# Altium footprint library PcbLib1.PcbLib: 15 footprints
Each footprint in its own frame and in the unit in brackets; x right, y up, seen from the top. Pads: shape width x height; smd on the part's side, far side on the other; paste and mask are expansions set on the pad; w line width, h text height; cw(c..) or ccw(c..) is an arc to the next point about the centre after c.
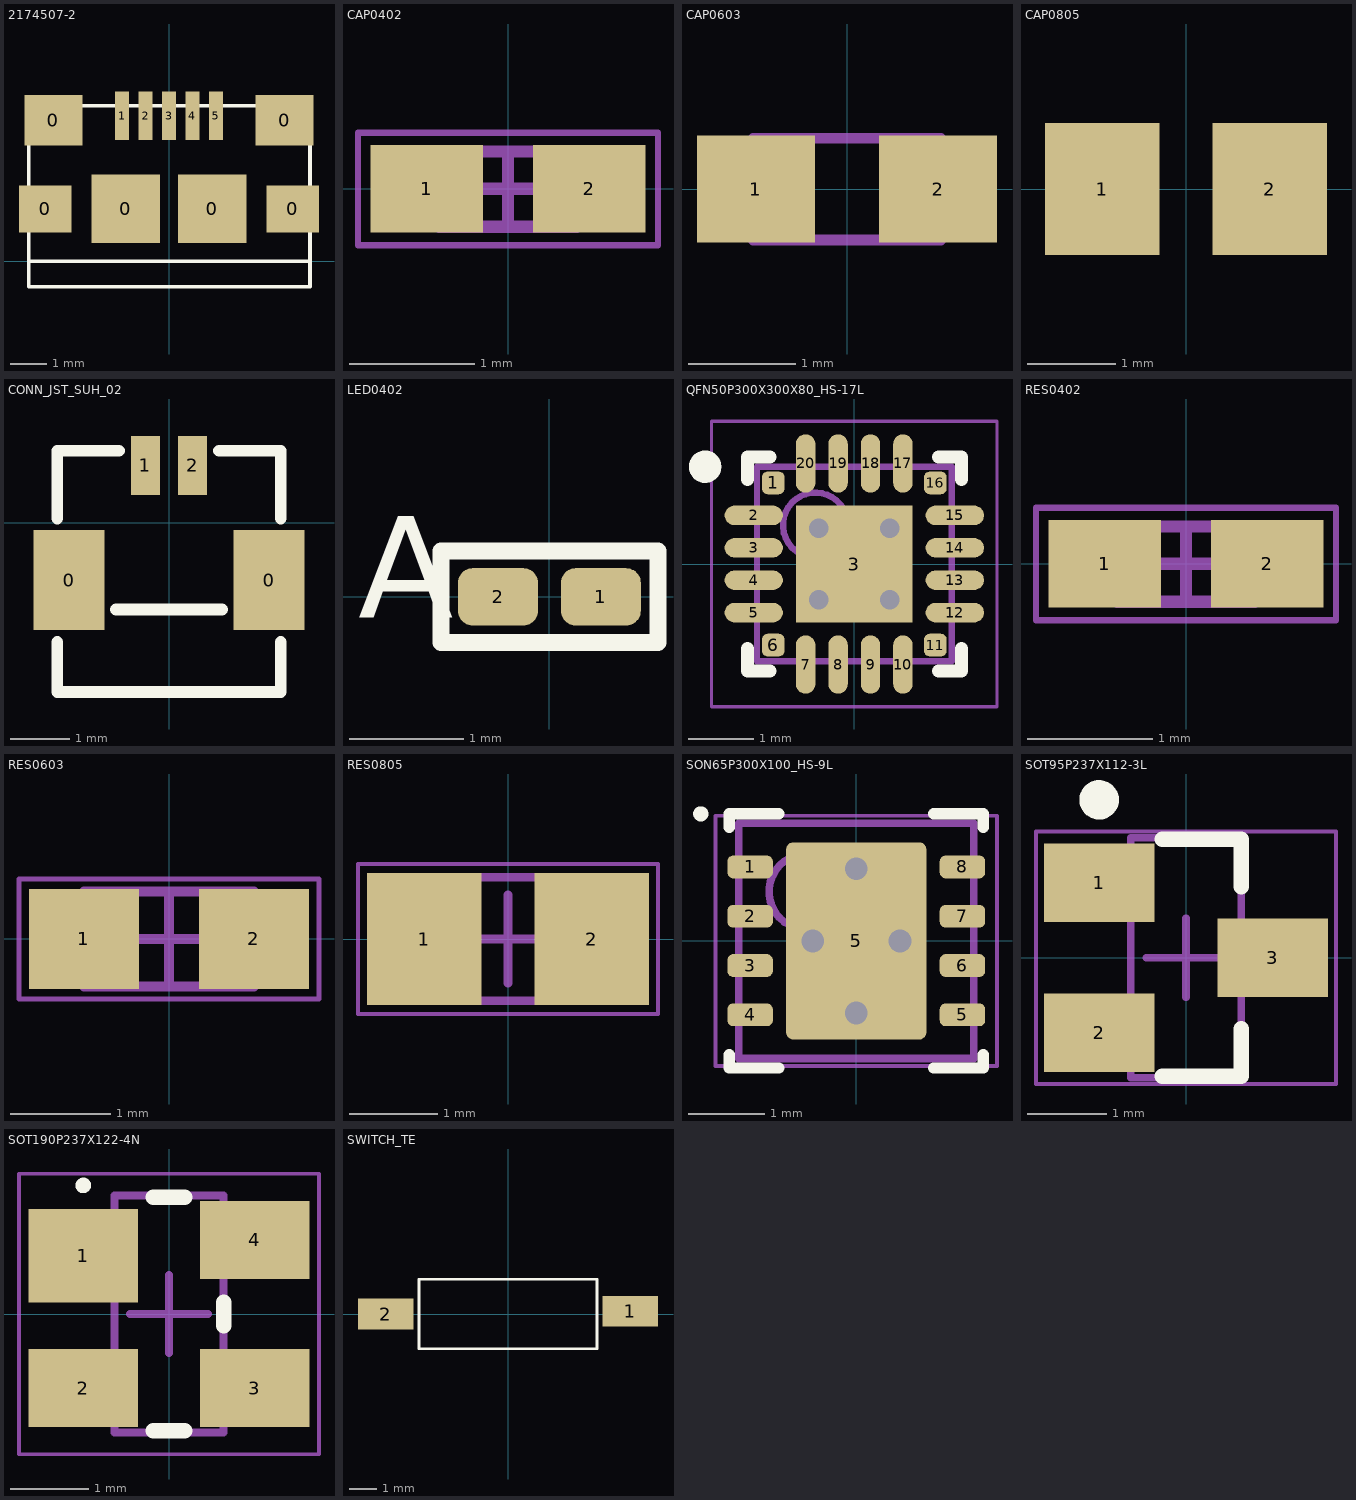
[diagram p0: the footprints below, top view; thin cyan lines are the x and y axes]

## 2174507-2 [mm] "MICRO USB, TYPE B"
height 2.71
pads (11):
  rect 1.45x1.3 smd mask+0.07: 0(-3.425,1.45) 0(3.425,1.45)
  rect 1.6x1.4 smd mask+0.07: 0(-3.2,3.9) 0(3.2,3.9)
  rect 1.9x1.9 smd mask+0.07: 0(-1.2,1.45) 0(1.2,1.45)
  rect 0.4x1.35 smd mask+0.07: 1(-1.3,4.025) 2(-0.65,4.025) 3(0,4.025) 4(0.65,4.025) 5(1.3,4.025)
Top Overlay:
  lines w0.1: -3.875,0 3.9,0 ; -3.875,-0.7 -3.875,4.3 3.9,4.3 3.9,-0.7 -3.875,-0.7
3D body "c-2174507-2-b-3d.stp": height 2.68, standoff -0.02, extent -3.9,-0.695 3.9,4.305

## CAP0402 [mm] "Chip Capacitor, 2-Leads, Body 1,00x0,50mm, IPC High Density"
height 0.6
pads (2):
  rect 0.9x0.7 smd: 1(-0.65,0) 2(0.65,0)
Assembly Top:
  lines w0.1: -0.55,-0.3 -0.55,0.3 0.55,0.3 0.55,-0.3 -0.55,-0.3
Courtyard Top:
  lines w0.05: -1.2,-0.45 -1.2,0.45 1.2,0.45 1.2,-0.45 -1.2,-0.45
  lines w0.1: -0.3,0 0.3,0 ; 0,-0.3 0,0.3
3D body "CAP0402.step": height 0.6, standoff 0, extent -0.55,-0.3 0.55,0.3

## CAP0603 [mm] "Chip Capacitor, 2-Leads, Body 1,60x0,80mm, IPC High Density"
height 0.85
pads (2):
  rect 1.1x1 smd: 1(-0.85,0) 2(0.85,0)
Assembly Top:
  lines w0.1: -0.875,-0.475 -0.875,0.475 0.875,0.475 0.875,-0.475 -0.875,-0.475
3D body "CAP0603.step": height 0.85, standoff 0, extent -0.875,-0.475 0.875,0.475

## CAP0805 [mm] "Chip Capacitor, 2-Leads, Body 2,00x1,25mm, IPC High Density"
height 1.1
pads (2):
  rect 1.3x1.5 smd: 1(-0.95,0) 2(0.95,0)
3D body "CAP0805.step": height 1.1, standoff 0, extent -1.1,-0.725 1.1,0.725

## CONN_JST_SUH_02 [mm] "SM02B-SURS-TF"
pads (4):
  rect 1.2x1.7 smd: 0(-1.7,-0.975) 0(1.7,-0.975)
  rect 0.5x1 smd: 1(-0.4,0.975) 2(0.4,0.975)
Top Overlay:
  lines w0.2: -1.9,-2.025 -1.9,-2.875 1.9,-2.875 1.9,-2.025 ; -1.9,0.075 -1.9,1.225 -0.85,1.225 ; -0.9,-1.475 0.9,-1.475 ; 0.85,1.225 1.9,1.225 1.9,0.075
3D body "SM02B-SURS-TF.STEP": height 1.71, standoff -0.04, extent -1.9,-1.475 1.9,1.225

## LED0402 [mm] "1.0 x 0.5 mm SMD Chip LED Lamp"
height 0.5
pads (2):
  rrect50% 0.7x0.5 smd mask+0.07: 1(0.45,0) 2(-0.45,0)
Top Overlay:
  lines w0.15: -0.95,-0.4 0.95,-0.4 0.95,0.4 -0.95,0.4 -0.95,-0.4
  text "A" at -1.675,-0.475 h1.52
3D body "APHHS1005.STEP": height 0.5, standoff 0, extent -0.5,-0.25 0.5,0.25

## Micro USB 2.0 [mm]
height 2.45

## QFN50P300X300X80_HS-17L [mm] "QFN, 16-Leads, Body 3,00x3,00mm, Pitch 0,50mm, Thermal Pad 1,80x1,80mm, IPC High Density"
height 0.8
pads (21):
  rrect50% 0.35x0.35 smd mask+0.07: 1(-1.25,1.25) 6(-1.25,-1.25) 11(1.25,-1.25) 16(1.25,1.25)
  oval 0.9x0.3 smd mask+0.07: 2(-1.55,0.75) 3(-1.55,0.25) 4(-1.55,-0.25) 5(-1.55,-0.75) 12(1.55,-0.75) 13(1.55,-0.25) 14(1.55,0.25) 15(1.55,0.75)
  rect 1.8x1.8 smd mask+0.07: 3(0,0)
  oval 0.3x0.9 smd mask+0.07: 7(-0.75,-1.55) 8(-0.25,-1.55) 9(0.25,-1.55) 10(0.75,-1.55) 17(0.75,1.55) 18(0.25,1.55) 19(-0.25,1.55) 20(-0.75,1.55)
via 0.55,-0.55 diameter 0.7 hole 0.3
via -0.55,-0.55 diameter 0.7 hole 0.3
via 0.55,0.55 diameter 0.7 hole 0.3
via -0.55,0.55 diameter 0.7 hole 0.3
Top Overlay:
  circle w0.25: c-2.3,1.5 r0.125
  lines w0.2: -1.65,-1.3 -1.65,-1.65 -1.3,-1.65 ; -1.65,1.3 -1.65,1.65 -1.3,1.65 ; 1.3,-1.65 1.65,-1.65 1.65,-1.3 ; 1.3,1.65 1.65,1.65 1.65,1.3
Assembly Top:
  circle w0.1: c-0.6,0.6 r0.5
  lines w0.1: -1.5,-1.5 1.5,-1.5 1.5,1.5 -1.5,1.5 -1.5,-1.5
Courtyard Top:
  lines w0.05: -2.2,-2.2 2.2,-2.2 2.2,2.2 -2.2,2.2 -2.2,-2.2
  lines w0.1: -0.5,0 0.5,0 ; 0,-0.5 0,0.5
3D body "QFN50P300X300X80_HS-17L.step": height 0.8, standoff 0, extent -1.501,-1.501 1.501,1.501

## RES0402 [mm] "Chip Resistor, 2-Leads, Body 1,05x0,54mm, IPC High Density"
height 0.4
pads (2):
  rect 0.9x0.7 smd: 1(-0.65,0) 2(0.65,0)
Assembly Top:
  lines w0.1: -0.55,-0.3 -0.55,0.3 0.55,0.3 0.55,-0.3 -0.55,-0.3
Courtyard Top:
  lines w0.05: -1.2,-0.45 1.2,-0.45 1.2,0.45 -1.2,0.45 -1.2,-0.45
  lines w0.1: -0.3,0 0.3,0 ; 0,-0.3 0,0.3
3D body "RES0402.step": height 0.4, standoff 0, extent -0.55,-0.3 0.55,0.3

## RES0603 [mm] "Chip Resistor, 2-Leads, Body 1,60x0,83mm, IPC High Density"
height 0.6
pads (2):
  rect 1.1x1 smd: 1(-0.85,0) 2(0.85,0)
Assembly Top:
  lines w0.1: -0.85,-0.475 -0.85,0.475 0.85,0.475 0.85,-0.475 -0.85,-0.475
Courtyard Top:
  lines w0.05: -1.5,-0.6 -1.5,0.6 1.5,0.6 1.5,-0.6 -1.5,-0.6
  lines w0.1: -0.475,0 0.475,0 ; 0,-0.475 0,0.475
3D body "RES0603.step": height 0.6, standoff 0, extent -0.85,-0.475 0.85,0.475

## RES0805 [mm] "Chip Resistor, 2-Leads, Body 2,00x1,25mm, IPC High Density"
height 0.65
pads (2):
  rect 1.3x1.5 smd: 1(-0.95,0) 2(0.95,0)
Assembly Top:
  lines w0.1: -1.075,-0.7 -1.075,0.7 1.075,0.7 1.075,-0.7 -1.075,-0.7
Courtyard Top:
  lines w0.05: -1.7,-0.85 -1.7,0.85 1.7,0.85 1.7,-0.85 -1.7,-0.85
  lines w0.1: -0.5,0 0.5,0 ; 0,-0.5 0,0.5
3D body "RES0805.step": height 0.65, standoff 0, extent -1.075,-0.7 1.075,0.7

## SON65P300X100_HS-9L [mm] "SON, 8-Leads, Body 3,00x3,00mm, Pitch 0,65mm, Thermal Pad 2,40x1,49mm, IPC High Density"
height 1
pads (9):
  rrect50% 0.6x0.3 smd mask+0.07: 1(-1.4,0.975) 2(-1.4,0.325) 3(-1.4,-0.325) 4(-1.4,-0.975) 5(1.4,-0.975) 6(1.4,-0.325) 7(1.4,0.325) 8(1.4,0.975)
  rrect10% 1.85x2.6 smd mask+0.07: 5(0,0)
via 0,0.95 diameter 0.7 hole 0.3
via 0,-0.95 diameter 0.7 hole 0.3
via -0.575,0 diameter 0.7 hole 0.3
via 0.575,0 diameter 0.7 hole 0.3
Top Overlay:
  circle w0.1: c-2.05,1.675 r0.05
  lines w0.15: -1.675,-1.5 -1.675,-1.675 -1.02,-1.675 ; -1.675,1.5 -1.675,1.675 -1.02,1.675 ; 1.02,-1.675 1.675,-1.675 1.675,-1.5 ; 1.02,1.675 1.675,1.675 1.675,1.5
Assembly Top:
  circle w0.1: c-0.65,0.65 r0.5
  lines w0.1: -1.55,-1.55 -1.55,1.55 1.55,1.55 1.55,-1.55 -1.55,-1.55
Courtyard Top:
  lines w0.05: -1.855,-1.65 -1.855,1.65 1.855,1.65 1.855,-1.65 -1.855,-1.65
  lines w0.1: -0.5,0 0.5,0 ; 0,-0.5 0,0.5
3D body "SON65P300X100_HS-9L.step": height 1, standoff 0, extent -1.551,-1.55 1.551,1.55

## SOT95P237X112-3L [mm] "SOT23, 3-Leads, Body 2,92x2,37mm, Pitch 0,95mm, IPC High Density"
height 1.12
pads (3):
  rect 1.4x1 smd: 1(-1.1,0.95) 2(-1.1,-0.95) 3(1.1,0)
Top Overlay:
  circle w0.25: c-1.1,2 r0.125
  lines w0.2: -0.3,-1.5 0.7,-1.5 0.7,-0.9 ; -0.3,1.5 0.7,1.5 0.7,0.9
Mechanical 13:
  lines w0.1: -0.7,-1.52 0.7,-1.52 0.7,1.52 -0.7,1.52 -0.7,-1.52
Mechanical 15:
  lines w0.05: -1.9,-1.6 1.9,-1.6 1.9,1.6 -1.9,1.6 -1.9,-1.6
  lines w0.1: -0.5,0 0.5,0 ; 0,-0.5 0,0.5
3D body "SOT95P237X112-3L.step": height 1.12, standoff 0, extent -1.32,-1.52 1.32,1.52

## SOT190P237X122-4N [mm] "SOT143, 4-Leads, Body 2,92x2,37mm, Pitch 1,90mm, IPC Medium Density"
height 1.22
pads (4):
  rect 1.4x1.2 smd: 1(-1.1,0.75)
  rect 1.4x1 smd: 2(-1.1,-0.95) 3(1.1,-0.95) 4(1.1,0.95)
Top Overlay:
  circle w0.1: c-1.1,1.65 r0.05
  lines w0.2: -0.2,-1.5 0.2,-1.5 ; -0.2,1.5 0.2,1.5 ; 0.7,-0.15 0.7,0.15
Assembly Top:
  lines w0.1: -0.7,-1.52 0.7,-1.52 0.7,1.52 -0.7,1.52 -0.7,-1.52
Courtyard Top:
  lines w0.05: -1.925,-1.8 1.925,-1.8 1.925,1.8 -1.925,1.8 -1.925,-1.8
  lines w0.1: -0.5,0 0.5,0 ; 0,-0.5 0,0.5
3D body "SOT190P237X122-4N.step": height 1.22, standoff 0.05, extent -0.849,-1.52 0.849,1.52

## SWITCH_TE [mm] "EDS01SGRNTU04Q"
height 3.5
pads (2):
  rect 2x1.1 smd: 1(4.4,0.1) 2(-4.4,0)
Top Overlay:
  lines w0.1: -3.2,-1.25 3.2,-1.25 3.2,1.25 -3.2,1.25 -3.2,-1.25
3D body "c-2319848-1-a-3d.stp": height 2.8, standoff -0.03, extent -4.9,-1.22 4.9,1.22